# EAGLE library part 7-SEGMENT-DISPLAY (library Batebit)
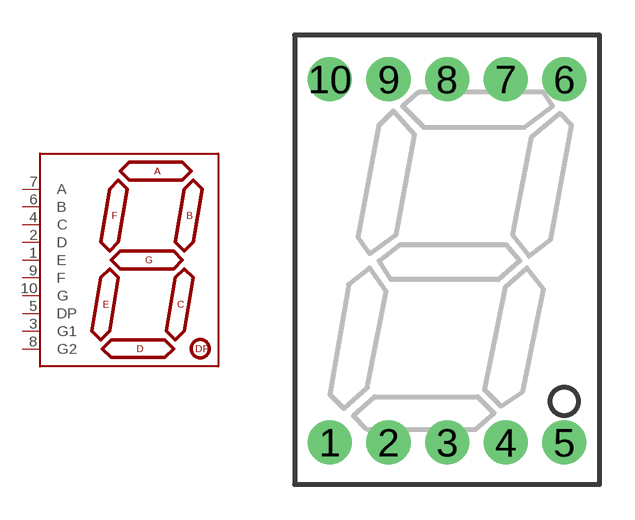
[diagram p8: symbol with the pads of 7-SEGMENT-DISPLAY; footprint 7-SEGMENT-DISPLAY]

Designator prefix -

## 7-SEGMENT-DISPLAYPTH  [7-SEGMENT-DISPLAY]
1  E
2  D
3  G1
4  C
5  DP
6  B
7  A
8  G2
9  F
10  G

## Footprint 7-SEGMENT-DISPLAY (pad centres in mm)
drill 0.65 pad 1.88: 1 -5,-7.75; 2 -2.5,-7.75; 3 0,-7.75; 4 2.5,-7.75; 5 5,-7.75; 6 5,7.75; 7 2.5,7.75; 8 0,7.75; 9 -2.5,7.75; 10 -5,7.75